# EAGLE library part TC2070 (library tag-connect)
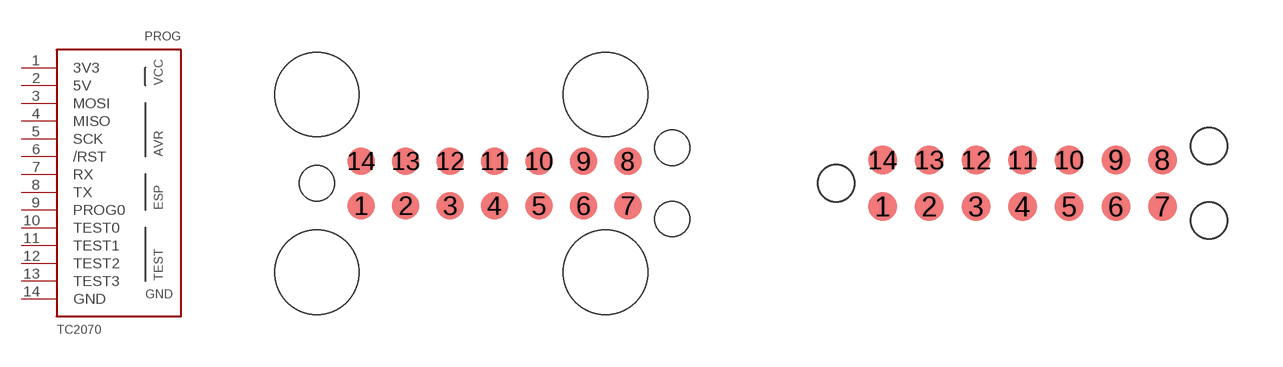
[diagram p2: symbol with the pads of TC2070-MCP; footprints TC2070-MCP, TC2070-MCP-NL]

Designator prefix PROG

## TC20702070  [TC2070-MCP]
1  3V3
2  5V
3  MOSI
4  MISO
5  SCK
6  /RST
7  RX
8  TX
9  PROG0
10  TEST0
11  TEST1
12  TEST2
13  TEST3
14  GND

## TC20702070-NL  [TC2070-MCP-NL]
Pads as for TC2070-MCP

## Footprint TC2070-MCP (pad centres in mm)
TAG-CONNECT ISP Connector Manufacturer: Tag-Connect <www.tag-connect.com> Cable for easy In-Circuit PCB Programming. Designed for Standard JTAG 10 Pin, suitable for many others. Footprint for TC2050 NL PAD Description 1 VTREF 2 nTRST 3 TDI 4 TMS 5 TCK 6 RTCK 7 TDO 8 RESET 9 GND 10 NC ©2009 ROFA.cz Modified 7/2011 by Tim McCarthy-Smith VIDA Products INC
smd 0.787 x 0.787: 1 -3.81,-0.635; 2 -2.54,-0.635; 3 -1.27,-0.635; 4 0,-0.635; 5 1.27,-0.635; 6 2.54,-0.635; 7 3.81,-0.635; 8 3.81,0.635; 9 2.54,0.635; 10 1.27,0.635; 11 0,0.635; 12 -1.27,0.635; 13 -2.54,0.635; 14 -3.81,0.635
hole 1 at -5.08,0
hole 1 at 5.08,-1.016
hole 1 at 5.08,1.016
hole 2.4 at -5.08,2.54
hole 2.4 at -5.08,-2.54
hole 2.4 at 3.175,2.54
hole 2.4 at 3.175,-2.54

## Footprint TC2070-MCP-NL (pad centres in mm)
TAG-CONNECT ISP Connector Manufacturer: Tag-Connect <www.tag-connect.com> Cable for easy In-Circuit PCB Programming. Designed for Standard JTAG 10 Pin, suitable for many others. Footprint for TC2050 NL PAD Description 1 VTREF 2 nTRST 3 TDI 4 TMS 5 TCK 6 RTCK 7 TDO 8 RESET 9 GND 10 NC ©2009 ROFA.cz Modified 7/2011 by Tim McCarthy-Smith VIDA Products INC
smd 0.787 x 0.787: 1 -3.81,-0.635; 2 -2.54,-0.635; 3 -1.27,-0.635; 4 0,-0.635; 5 1.27,-0.635; 6 2.54,-0.635; 7 3.81,-0.635; 8 3.81,0.635; 9 2.54,0.635; 10 1.27,0.635; 11 0,0.635; 12 -1.27,0.635; 13 -2.54,0.635; 14 -3.81,0.635
hole 1 at -5.08,0
hole 1 at 5.08,-1.016
hole 1 at 5.08,1.016